# Altium footprint library PcbLib.PcbLib: 19 footprints (part 1 of 2)
Each footprint in its own frame and in the unit in brackets; x right, y up, seen from the top. Pads: shape width x height; smd on the part's side, far side on the other; paste and mask are expansions set on the pad; w line width, h text height; cw(c..) or ccw(c..) is an arc to the next point about the centre after c.
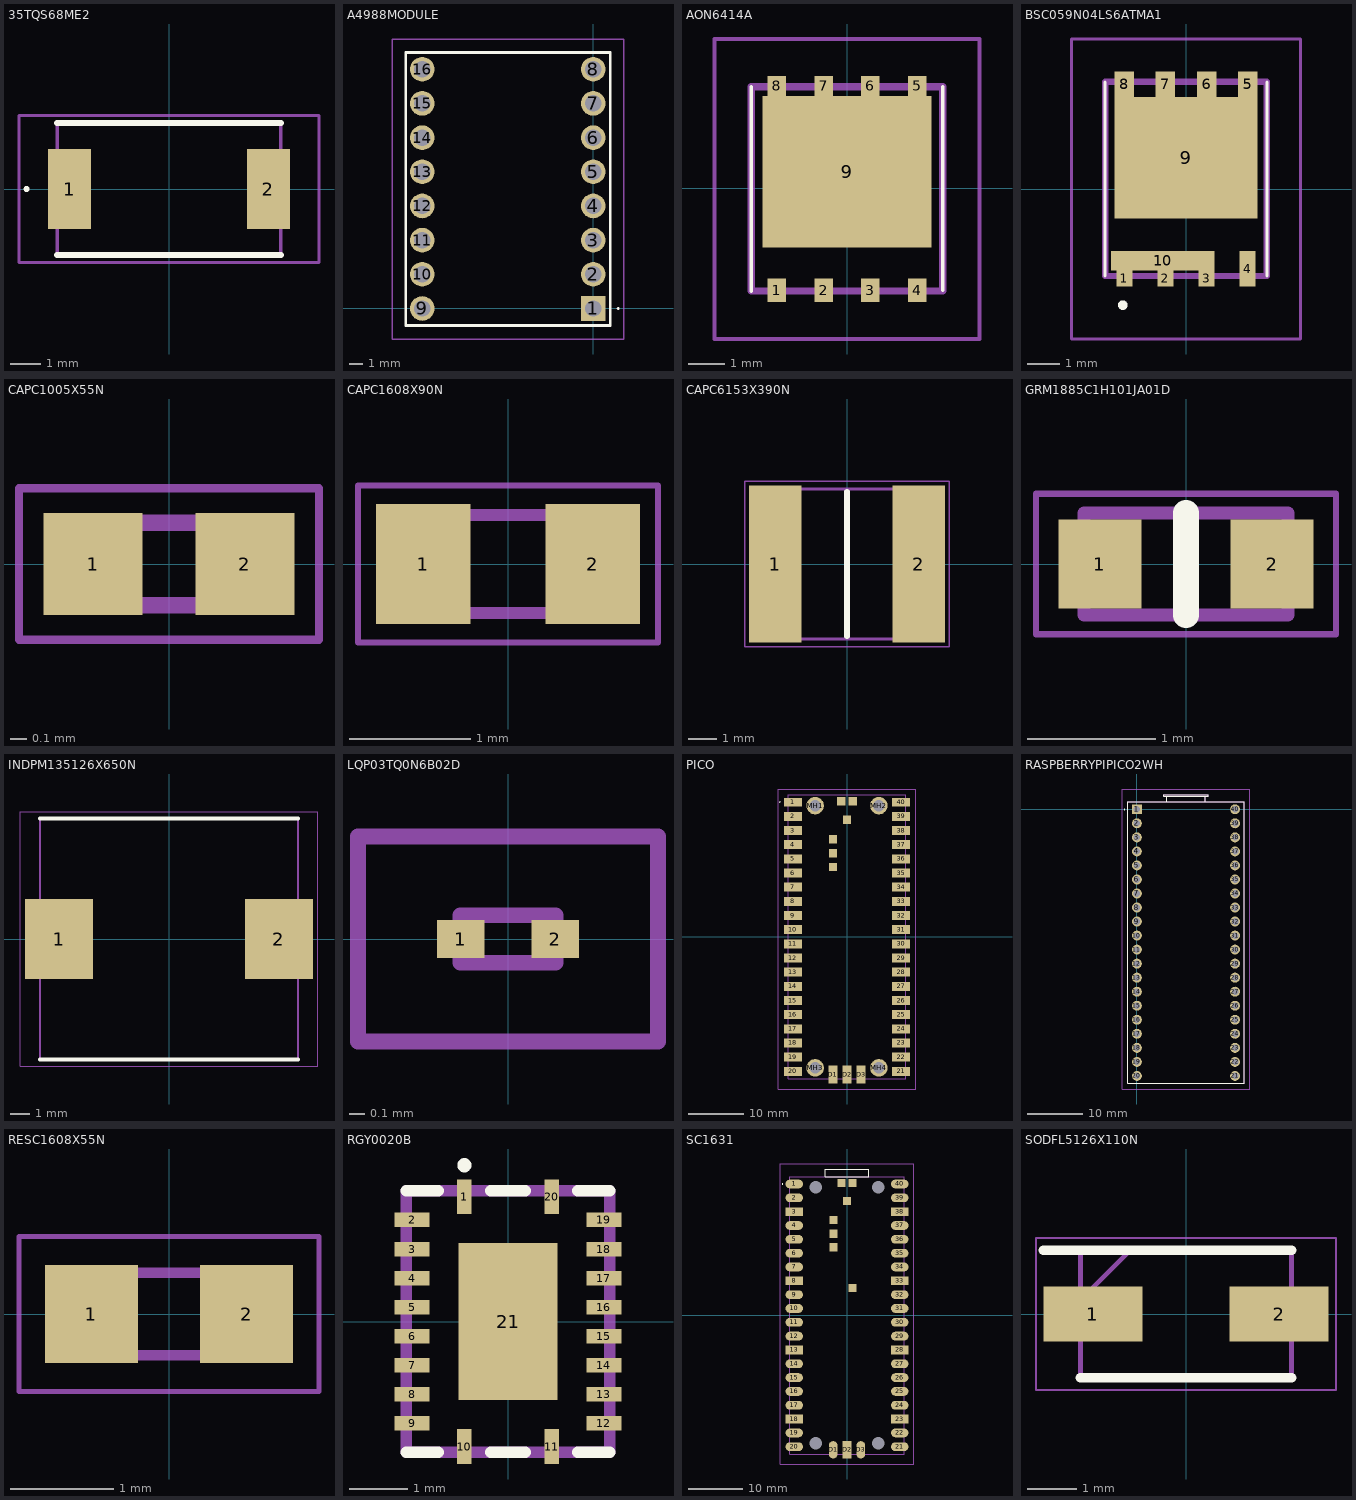
[diagram p0: the footprints below, top view; thin cyan lines are the x and y axes]

## 35TQS68ME2 [mm]
pads (2):
  rect 1.4x2.6 smd: 1(-3.25,0) 2(3.25,0)
Top Overlay:
  lines w0.1: -4.7,0 ccw(c-4.65,0) -4.6,0 ccw(c-4.65,0) -4.7,0
  lines w0.2: -3.65,-2.15 3.65,-2.15 ; -3.65,2.15 3.65,2.15
Mechanical 13:
  lines w0.1: -3.65,-2.15 -3.65,2.15 3.65,2.15 3.65,-2.15 -3.65,-2.15
Mechanical 15:
  lines w0.1: -4.9,-2.4 4.9,-2.4 4.9,2.4 -4.9,2.4 -4.9,-2.4
3D body "35TQS68ME2.stp": height 1.9, standoff 0, extent -3.65,-2.15 3.65,2.15

## A4988MODULE [mm]
pads (16):
  rect 1.83x1.83 hole 1.22: 1(0,0)
  round 1.83 hole 1.22: 2(0,2.54) 3(0,5.08) 4(0,7.62) 5(0,10.16) 6(0,12.7) 7(0,15.24) 8(0,17.78) 9(-12.7,0) 10(-12.7,2.54) 11(-12.7,5.08) 12(-12.7,7.62) 13(-12.7,10.16) 14(-12.7,12.7) 15(-12.7,15.24) 16(-12.7,17.78)
Top Overlay:
  lines w0.1: 1.8,0 cw(c1.85,0) 1.9,0 cw(c1.85,0) 1.8,0
  lines w0.2: -13.93,-1.27 -13.93,19.03 1.27,19.03 1.27,-1.27 -13.93,-1.27
Mechanical 13:
  lines w0.1: -13.93,-1.27 -13.93,19.03 1.27,19.03 1.27,-1.27 -13.93,-1.27
Mechanical 15:
  lines w0.1: -14.93,-2.27 -14.93,20.03 2.27,20.03 2.27,-2.27 -14.93,-2.27
3D body "A4988_MODULE.stp": height 3.47, standoff -5, extent -13.93,-1.27 1.27,19.03

## AON6414A [mm]
pads (9):
  rect 0.5x0.65 smd: 1(-1.905,-2.765) 2(-0.635,-2.765) 3(0.635,-2.765) 4(1.905,-2.765)
  rect 0.5x0.55 smd: 5(1.905,2.785) 6(0.635,2.785) 7(-0.635,2.785) 8(-1.905,2.785)
  rect 4.6x4.12 smd: 9(0,0.45)
Top Overlay:
  lines w0.1: -2.6,-2.785 -2.6,2.765 ; 2.6,-2.765 2.6,2.765
Mechanical 13:
  lines w0.2: -2.6,-2.785 -2.6,2.765 2.6,2.765 2.6,-2.785 -2.6,-2.785
Mechanical 15:
  lines w0.1: -3.6,-4.09 -3.6,4.06 3.6,4.06 3.6,-4.09 -3.6,-4.09
3D body "AON6512.stp": height 0.91, standoff 0.01, extent -2.522,-3.014 2.522,3.014

## BSC059N04LS6ATMA1 [mm]
pads (10):
  rect 0.5x0.5 smd: 1(-1.905,-2.764) 2(-0.635,-2.764) 3(0.635,-2.764)
  rect 0.5x1.1 smd: 4(1.905,-2.464)
  rect 0.6x0.8 smd: 5(1.905,3.236) 6(0.635,3.236) 7(-0.635,3.236) 8(-1.905,3.236)
  rect 4.41x3.75 smd: 9(0,0.961)
  rect 3.2x0.6 smd: 10(-0.715,-2.214)
Top Overlay:
  lines w0.1: 2.5,-2.689 2.5,3.311 ; -2.5,-2.689 -2.5,3.311 -2.5,-2.689
  lines w0.2: -2,-3.589 ccw(c-1.953,-3.589) -1.906,-3.589 ; -2,-3.589 cw(c-1.953,-3.589) -1.906,-3.589 ; -2,-3.589 ccw(c-1.953,-3.589) -1.906,-3.589
Mechanical 13:
  lines w0.2: -2.5,-2.689 -2.5,3.311 2.5,3.311 2.5,-2.689 -2.5,-2.689
Mechanical 15:
  lines w0.1: -3.54,-4.636 -3.54,4.636 3.54,4.636 3.54,-4.636 -3.54,-4.636

## CAPC1005X55N [mm]
pads (2):
  rect 0.6x0.62 smd: 1(-0.46,0) 2(0.46,0)
Mechanical 13:
  lines w0.1: -0.5,-0.25 -0.5,0.25 0.5,0.25 0.5,-0.25 -0.5,-0.25
Mechanical 15:
  lines w0.05: -0.91,-0.46 -0.91,0.46 0.91,0.46 0.91,-0.46 -0.91,-0.46
3D body "GJM1555C1H1R8BB01D.stp": height 0.55, standoff 0, extent -0.5,-0.25 0.5,0.25

## CAPC1608X90N [mm]
pads (2):
  rect 0.78x0.99 smd: 1(-0.7,0) 2(0.7,0)
Mechanical 13:
  lines w0.1: -0.8,-0.405 -0.8,0.405 0.8,0.405 0.8,-0.405 -0.8,-0.405
Mechanical 15:
  lines w0.05: -1.24,-0.65 1.24,-0.65 1.24,0.65 -1.24,0.65 -1.24,-0.65
3D body "06031A470JAT2A.stp": height 0.91, standoff 0, extent -0.76,-0.38 0.76,0.38

## CAPC6153X390N [mm]
pads (2):
  rect 1.86x5.52 smd: 1(-2.53,0) 2(2.53,0)
Top Overlay:
  lines w0.2: 0,-2.55 0,2.55
Mechanical 13:
  lines w0.1: -3.05,-2.65 3.05,-2.65 3.05,2.65 -3.05,2.65 -3.05,-2.65
Mechanical 15:
  lines w0.05: -3.61,-2.91 3.61,-2.91 3.61,2.91 -3.61,2.91 -3.61,-2.91
3D body "KCM55QR71H226KH13K.stp": height 3.9, standoff 0, extent -3.05,-2.65 3.05,2.65

## GRM1885C1H101JA01D [mm]
pads (2):
  rect 0.65x0.7 smd: 1(-0.675,0) 2(0.675,0)
Top Overlay:
  lines w0.2: 0,-0.4 0,0.4
Mechanical 13:
  lines w0.1: -0.8,-0.4 -0.8,0.4 0.8,0.4 0.8,-0.4 -0.8,-0.4
Mechanical 15:
  lines w0.05: -1.175,-0.55 1.175,-0.55 1.175,0.55 -1.175,0.55 -1.175,-0.55
3D body "GRM1885C1H101JA01D.stp": height 0.8, standoff 0, extent -0.8,-0.45 0.8,0.45

## INDPM135126X650N [mm]
pads (2):
  rect 3.55x4.2 smd: 1(-5.75,0) 2(5.75,0)
Top Overlay:
  lines w0.2: -6.75,-6.3 6.75,-6.3 ; -6.75,6.3 6.75,6.3
Mechanical 13:
  lines w0.1: -6.75,-6.3 -6.75,6.3 6.75,6.3 6.75,-6.3 -6.75,-6.3
Mechanical 15:
  lines w0.05: -7.775,-6.65 -7.775,6.65 7.775,6.65 7.775,-6.65 -7.775,-6.65
3D body "PA4343.822ANLT.stp": height 6.5, standoff 0, extent -6.75,-6.3 6.75,6.3

## LQP03TQ0N6B02D [mm]
pads (2):
  rect 0.3x0.24 smd: 1(-0.3,0) 2(0.3,0)
Mechanical 13:
  lines w0.1: -0.3,-0.15 -0.3,0.15 0.3,0.15 0.3,-0.15 -0.3,-0.15
Mechanical 15:
  lines w0.1: -0.95,-0.65 -0.95,0.65 0.95,0.65 0.95,-0.65 -0.95,-0.65
3D body "LQP03TQ5N6H02D.stp": height 0.32, standoff 0, extent -0.3,-0.15 0.3,0.15

## PICO [mm]
pads (53):
  rect 3.2x1.6 smd: 1(-9.69,24.13) 2(-9.69,21.59) 3(-9.69,19.05) 4(-9.69,16.51) 5(-9.69,13.97) 6(-9.69,11.43) 7(-9.69,8.89) 8(-9.69,6.35) 9(-9.69,3.81) 10(-9.69,1.27) 11(-9.69,-1.27) 12(-9.69,-3.81) 13(-9.69,-6.35) 14(-9.69,-8.89) 15(-9.69,-11.43) 16(-9.69,-13.97) 17(-9.69,-16.51) 18(-9.69,-19.05) 19(-9.69,-21.59) 20(-9.69,-24.13) 21(9.69,-24.13) 22(9.69,-21.59) 23(9.69,-19.05) 24(9.69,-16.51) 25(9.69,-13.97) 26(9.69,-11.43) 27(9.69,-8.89) 28(9.69,-6.35) 29(9.69,-3.81) 30(9.69,-1.27) 31(9.69,1.27) 32(9.69,3.81) 33(9.69,6.35) 34(9.69,8.89) 35(9.69,11.43) 36(9.69,13.97) 37(9.69,16.51) 38(9.69,19.05) 39(9.69,21.59) 40(9.69,24.13)
  rect 1.6x3.2 smd: D1(-2.54,-24.7) D2(0,-24.7) D3(2.54,-24.7)
  round 3.15 hole 2.1: MH1(-5.7,23.5) MH2(5.7,23.5) MH3(-5.7,-23.5) MH4(5.7,-23.5)
  rect 1.5x1.5 smd: TP1(0,21) TP2(1,24.3) TP3(-1,24.3) TP4(-2.5,17.5) TP5(-2.5,15) TP6(-2.5,12.5)
Top Overlay:
  lines w0.2: -12.1,24.2 ccw(c-12.05,24.2) -12,24.2 ; -12.1,24.2 cw(c-12.05,24.2) -12,24.2 ; -12.1,24.2 ccw(c-12.05,24.2) -12,24.2
Mechanical 13:
  lines w0.2: -10.5,-25.5 -10.5,25.5 10.5,25.5 10.5,-25.5 -10.5,-25.5
Mechanical 15:
  lines w0.1: -12.29,-27.3 -12.29,26.5 12.29,26.5 12.29,-27.3 -12.29,-27.3
3D body "PICO.stp": height 3.69, standoff 0, extent -10.5,-25.45 10.5,26.976

## RASPBERRYPIPICO2WH [mm]
pads (40):
  rect 1.8x1.8 hole 1.2: 1(0,0)
  round 1.8 hole 1.2: 2(0,-2.54) 3(0,-5.08) 4(0,-7.62) 5(0,-10.16) 6(0,-12.7) 7(0,-15.24) 8(0,-17.78) 9(0,-20.32) 10(0,-22.86) 11(0,-25.4) 12(0,-27.94) 13(0,-30.48) 14(0,-33.02) 15(0,-35.56) 16(0,-38.1) 17(0,-40.64) 18(0,-43.18) 19(0,-45.72) 20(0,-48.26) 21(17.78,-48.26) 22(17.78,-45.72) 23(17.78,-43.18) 24(17.78,-40.64) 25(17.78,-38.1) 26(17.78,-35.56) 27(17.78,-33.02) 28(17.78,-30.48) 29(17.78,-27.94) 30(17.78,-25.4) 31(17.78,-22.86) 32(17.78,-20.32) 33(17.78,-17.78) 34(17.78,-15.24) 35(17.78,-12.7) 36(17.78,-10.16) 37(17.78,-7.62) 38(17.78,-5.08) 39(17.78,-2.54) 40(17.78,0)
Top Overlay:
  lines w0.1: -2.3,0 cw(c-2.25,0) -2.2,0 cw(c-2.25,0) -2.3,0
  lines w0.2: 5.39,1.37 5.39,2.37 ; 12.39,1.37 12.39,2.37 ; 4.89,2.37 4.89,2.67 ; 4.89,2.37 12.89,2.37 12.89,2.67 4.89,2.67 ; 4.89,2.37 4.89,2.67 ; -1.61,-49.63 -1.61,1.37 19.39,1.37 19.39,-49.63 -1.61,-49.63
Mechanical 13:
  lines w0.1: 5.39,1.37 5.39,2.37 ; 12.39,1.37 12.39,2.37 ; -1.61,-49.63 -1.61,1.37 19.39,1.37 19.39,-49.63 -1.61,-49.63 ; 4.89,2.37 12.89,2.37 12.89,2.67 4.89,2.67 4.89,2.37
Mechanical 15:
  lines w0.1: -2.61,-50.63 -2.61,3.67 20.39,3.67 20.39,-50.63 -2.61,-50.63

## RESC1608X55N [mm]
pads (2):
  rect 0.9x0.95 smd: 1(-0.75,0) 2(0.75,0)
Mechanical 13:
  lines w0.1: -0.775,-0.4 -0.775,0.4 0.775,0.4 0.775,-0.4 -0.775,-0.4
Mechanical 15:
  lines w0.05: -1.45,-0.75 -1.45,0.75 1.45,0.75 1.45,-0.75 -1.45,-0.75
3D body "CPF0603B110KE1.stp": height 0.46, standoff 0, extent -0.775,-0.4 0.775,0.4

## RGY0020B [mm]
pads (21):
  rect 0.25x0.6 smd: 1(-0.75,2.15) 10(-0.75,-2.15) 11(0.75,-2.15) 20(0.75,2.15)
  rect 0.6x0.25 smd: 2(-1.65,1.75) 3(-1.65,1.25) 4(-1.65,0.75) 5(-1.65,0.25) 6(-1.65,-0.25) 7(-1.65,-0.75) 8(-1.65,-1.25) 9(-1.65,-1.75) 12(1.65,-1.75) 13(1.65,-1.25) 14(1.65,-0.75) 15(1.65,-0.25) 16(1.65,0.25) 17(1.65,0.75) 18(1.65,1.25) 19(1.65,1.75)
  rect 1.7x2.7 smd: 21(0,0)
Top Overlay:
  circle w0.2: c-0.751,2.692 r0.022
  lines w0.2: -1.75,-2.25 -1.2,-2.25 ; -1.75,2.25 -1.2,2.25 ; -0.3,-2.25 0.3,-2.25 ; -0.3,2.25 0.3,2.25 ; 1.2,-2.25 1.75,-2.25 ; 1.2,2.25 1.75,2.25
Mechanical 13:
  lines w0.2: -1.75,-2.25 -1.75,2.25 1.75,2.25 1.75,-2.25 -1.75,-2.25
3D body "LM5145RGYR.stp": height 1, standoff 0, extent -1.75,-2.25 1.75,2.25

## SC1631 [mm]
pads (54):
  rrect100% 3.2x1.6 smd: 1(-9.69,24.13) 2(-9.69,21.59) 4(-9.69,16.51) 5(-9.69,13.97) 6(-9.69,11.43) 7(-9.69,8.89) 9(-9.69,3.81) 10(-9.69,1.27) 11(-9.69,-1.27) 12(-9.69,-3.81) 14(-9.69,-8.89) 15(-9.69,-11.43) 16(-9.69,-13.97) 17(-9.69,-16.51) 19(-9.69,-21.59) 20(-9.69,-24.13) 21(9.69,-24.13) 22(9.69,-21.59) 24(9.69,-16.51) 25(9.69,-13.97) 26(9.69,-11.43) 27(9.69,-8.89) 29(9.69,-3.81) 30(9.69,-1.27) 31(9.69,1.27) 32(9.69,3.81) 34(9.69,8.89) 35(9.69,11.43) 36(9.69,13.97) 37(9.69,16.51) 39(9.69,21.59) 40(9.69,24.13)
  rect 3.2x1.6 smd: 3(-9.69,19.05) 8(-9.69,6.35) 13(-9.69,-6.35) 18(-9.69,-19.05) 23(9.69,-19.05) 28(9.69,-6.35) 33(9.69,6.35) 38(9.69,19.05)
  round 1.15 hole 2.3 unplated: 41(-5.7,23.5) 42(-5.7,-23.5) 43(5.7,-23.5) 44(5.7,23.5)
  rrect100% 1.6x3.2 smd: D1(-2.54,-24.7) D3(2.54,-24.7)
  rect 1.6x3.2 smd: D2(0,-24.7)
  rect 1.5x1.5 smd: TP1(0,21) TP2(1,24.3) TP3(-1,24.3) TP4(-2.5,17.5) TP5(-2.5,15) TP6(-2.5,12.5) TP7(1,5)
Top Overlay:
  lines w0.1: -11.9,24.13 ccw(c-11.85,24.13) -11.8,24.13 ccw(c-11.85,24.13) -11.9,24.13
  lines w0.2: -4,25.5 -4,26.8 4,26.8 4,25.5 -4,25.5
Mechanical 13:
  lines w0.1: -10.5,-25.5 -10.5,25.5 10.5,25.5 10.5,-25.5 -10.5,-25.5
Mechanical 15:
  lines w0.1: -12.29,-27.3 -12.29,27.8 12.29,27.8 12.29,-27.3 -12.29,-27.3
3D body "SC1631.stp": height 4.6, standoff -1.7, extent -11.13,-26.14 11.13,25.5

## SODFL5126X110N [mm]
pads (2):
  rect 2.02x1.12 smd: 1(-1.9,0) 2(1.9,0)
Top Overlay:
  lines w0.2: -2.91,1.3 2.15,1.3 ; -2.15,-1.3 2.15,-1.3
Mechanical 13:
  lines w0.1: -2.15,0.29 -1.14,1.3 ; -2.15,-1.3 -2.15,1.3 2.15,1.3 2.15,-1.3 -2.15,-1.3
Mechanical 15:
  lines w0.05: -3.06,-1.55 -3.06,1.55 3.06,1.55 3.06,-1.55 -3.06,-1.55
3D body "MBRAF440T3G.stp": height 1.1, standoff 0, extent -2.55,-1.3 2.55,1.3